# Altium schematic symbol library BrakePlaus2019.SchLib: 1 symbol
Pins are listed as number, name and electrical type; pins without a type are passive.

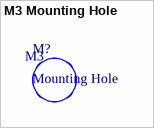
[diagram p0: symbol M3 Mounting Hole]

## M3 Mounting Hole
designator M?, comment Mounting Hole
footprint M3 Mounting Hole
text: M3